# Altium integrated library PT2512FK-070R1L.IntLib: 1 symbol
Pins are listed as number, name and electrical type; pins without a type are passive.

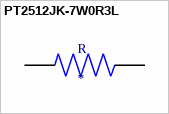
[diagram p0: symbol PT2512JK-7W0R3L]

## PT2512JK-7W0R3L
designator R
RES 0.3 OHM 5% 2W 2512; MF: Yageo; MP: PT2512JK-7W0R3L; Value: *; SnapEDA_Link: https://www.snapeda.com/parts/PT2512JK-7W0R3L/Yageo/view-part/1194889/?ref=snap; Price: None; Availability: Unavailable; Package: 6332 Yageo
footprint RESC6332X65N
pins: 1, 2